# Altium schematic symbol library LevelTranslator_TI_SN74AVC1T45.SchLib: 1 symbol
Pins are listed as number, name and electrical type; pins without a type are passive.

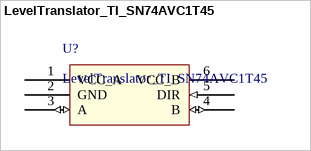
[diagram p0: symbol LevelTranslator_TI_SN74AVC1T45]

## LevelTranslator_TI_SN74AVC1T45
designator U?
LevelTranslator_TI_SN74AVC1T45,3-state outputs
pins: 1 VCC_A (power), 2 GND (power), 3 A (io), 4 B (io), 5 DIR (in), 6 VCC_B (power)